# Altium footprint library Flight_Controller.PcbLib: 21 footprints (part 1 of 2)
Each footprint in its own frame and in the unit in brackets; x right, y up, seen from the top. Pads: shape width x height; smd on the part's side, far side on the other; paste and mask are expansions set on the pad; w line width, h text height; cw(c..) or ccw(c..) is an arc to the next point about the centre after c.
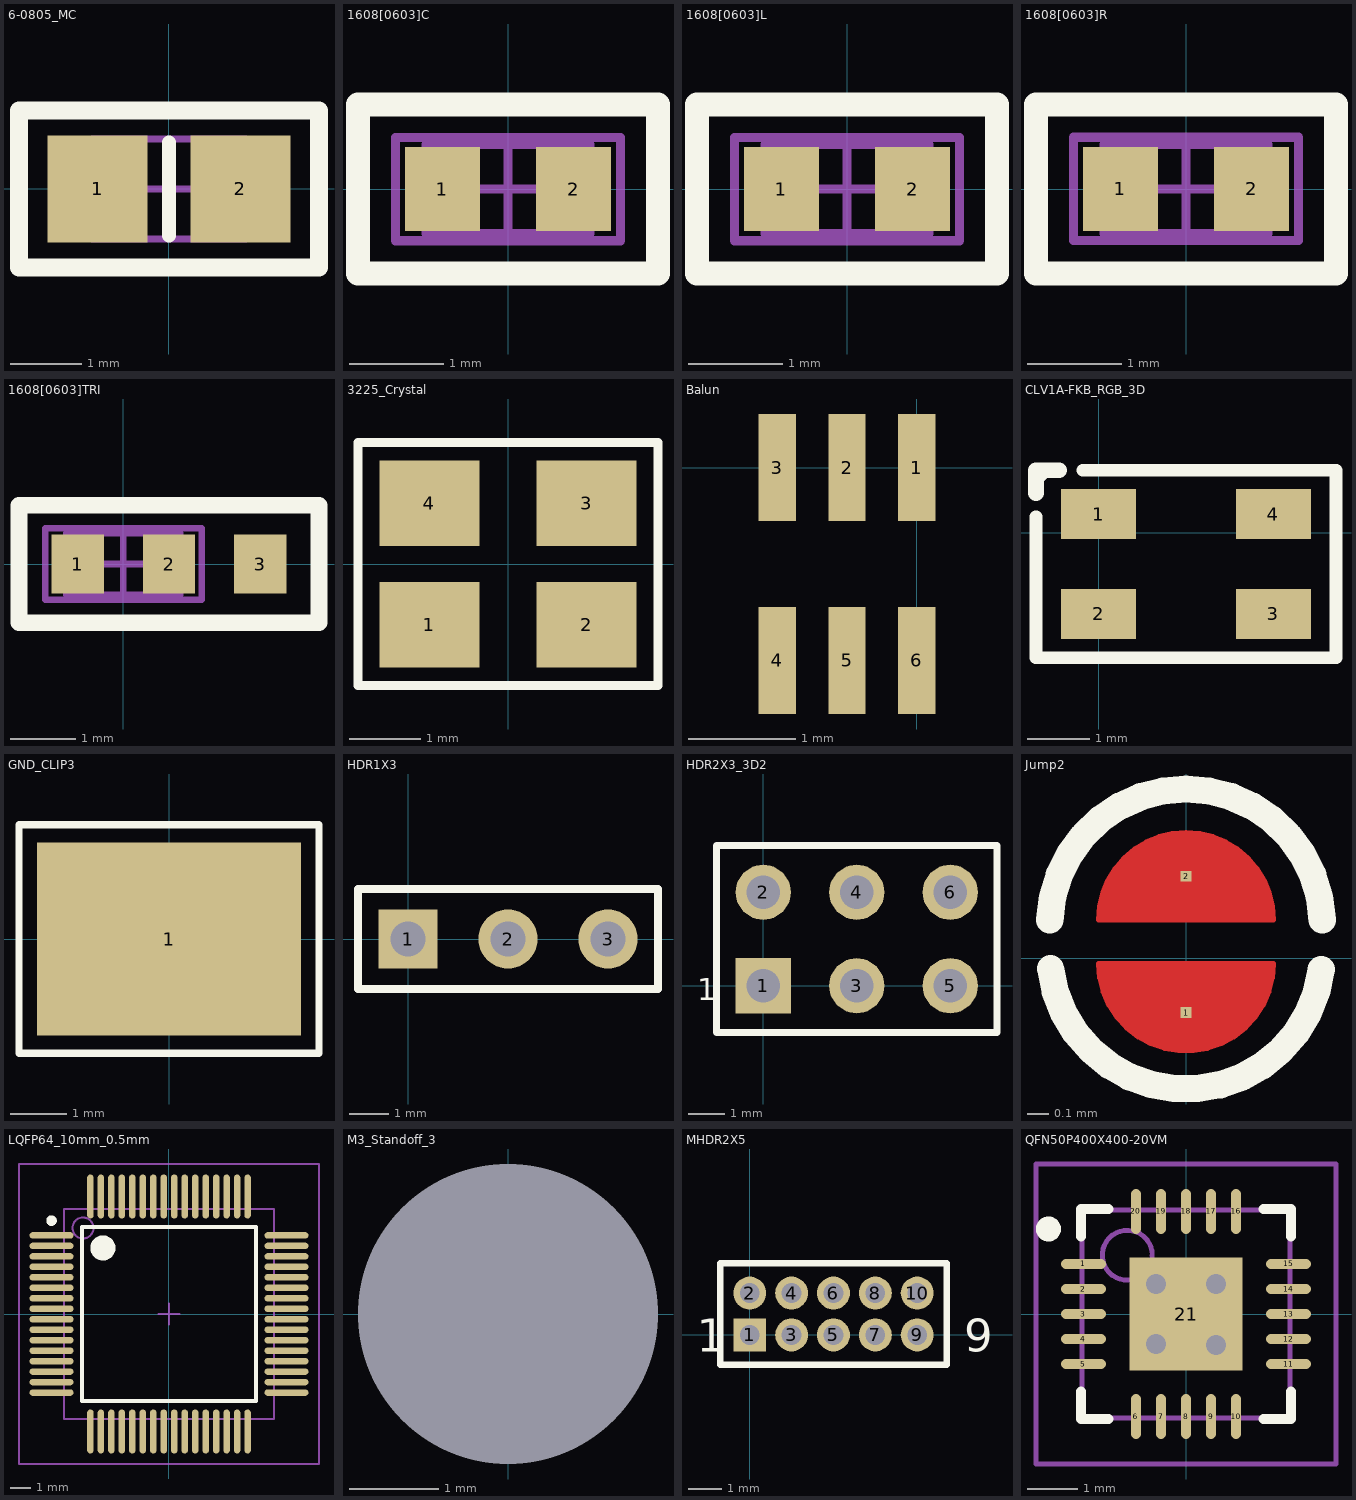
[diagram p0: the footprints below, top view; thin cyan lines are the x and y axes]

## 6-0805_MC [mm] "Chip Resistor, Body 2.0x1.2mm, IPC Low Density"
height 0.7
pads (2):
  rect 1.4x1.5 smd: 1(-1,0) 2(1,0)
Top Overlay:
  lines w0.2: 0,-0.65 0,0.65
  lines w0.254: 2.1,-1.1 -2.1,-1.1 -2.1,1.1 2.1,1.1 2.1,-1.1 ; 2.1,-1.1 2.1,-1.1
Mechanical 13:
  lines w0.1: -1.075,-0.7 -1.075,0.7 1.075,0.7 1.075,-0.7 -1.075,-0.7
Mechanical 15:
  lines w0.1: -0.5,0 0.5,0 ; 0,-0.5 0,0.5
3D body: height 0.59, standoff -0.01, extent -1,-0.625 1,0.625

## 1608[0603]C [mm] "Chip Capacitor, Body 1.6x0.8mm, IPC High Density"
height 1.3
pads (2):
  rect 0.8x0.9 smd: 1(-0.7,0) 2(0.7,0)
Top Overlay:
  lines w0.254: -1.6,-0.9 -1.6,0.9 1.6,0.9 1.6,-0.9 -1.6,-0.9
Mechanical 13:
  lines w0.1: -0.875,-0.475 -0.875,0.475 0.875,0.475 0.875,-0.475 -0.875,-0.475
Mechanical 15:
  lines w0.1: -0.475,0 0.475,0 ; 0,-0.475 0,0.475 ; -1.2,-0.55 -1.2,0.55 1.2,0.55 1.2,-0.55 -1.2,-0.55
3D body: height 0.78, standoff -0.02, extent -0.8,-0.4 0.8,0.4

## 1608[0603]L [mm] "Chip Capacitor, Body 1.6x0.8mm, IPC High Density"
height 1.3
pads (2):
  rect 0.8x0.9 smd: 1(-0.7,0) 2(0.7,0)
Top Overlay:
  lines w0.254: -1.6,-0.9 1.6,-0.9 1.6,0.9 -1.6,0.9 -1.6,-0.9
Mechanical 13:
  lines w0.1: -0.875,-0.475 0.875,-0.475 0.875,0.475 -0.875,0.475 -0.875,-0.475
Mechanical 15:
  lines w0.1: -0.475,0 0.475,0 ; 0,-0.475 0,0.475 ; -1.2,-0.55 1.2,-0.55 1.2,0.55 -1.2,0.55 -1.2,-0.55
3D body: height 0.8, standoff 0, extent -0.8,-0.4 0.8,0.4

## 1608[0603]R [mm] "Chip Capacitor, Body 1.6x0.8mm, IPC High Density"
height 1.3
pads (2):
  rect 0.8x0.9 smd: 1(-0.7,0) 2(0.7,0)
Top Overlay:
  lines w0.254: -1.6,-0.9 -1.6,0.9 1.6,0.9 1.6,-0.9 -1.6,-0.9
Mechanical 13:
  lines w0.1: -0.875,-0.475 -0.875,0.475 0.875,0.475 0.875,-0.475 -0.875,-0.475
Mechanical 15:
  lines w0.1: -0.475,0 0.475,0 ; 0,-0.475 0,0.475 ; -1.2,-0.55 -1.2,0.55 1.2,0.55 1.2,-0.55 -1.2,-0.55
3D body: height 0.44, standoff -0.02, extent -0.8,-0.4 0.8,0.4

## 1608[0603]TRI [mm] "Chip Capacitor, Body 1.6x0.8mm, IPC High Density"
height 1.3
pads (3):
  rect 0.8x0.9 smd: 1(-0.7,0) 2(0.7,0) 3(2.1,0)
Top Overlay:
  lines w0.254: -1.6,-0.9 3,-0.9 3,0.9 -1.6,0.9 -1.6,-0.9
Mechanical 13:
  lines w0.1: -0.875,-0.475 0.875,-0.475 0.875,0.475 -0.875,0.475 -0.875,-0.475
Mechanical 15:
  lines w0.1: -0.475,0 0.475,0 ; 0,-0.475 0,0.475 ; -1.2,-0.55 1.2,-0.55 1.2,0.55 -1.2,0.55 -1.2,-0.55
3D body: height 0.8, standoff 0, extent 0.6,-0.4 2.2,0.4
3D body: height 0.8, standoff 0, extent -0.8,-0.4 0.8,0.4

## 3225_Crystal [mm] "12 MHz Micro Crystal"
pads (4):
  rect 1.4x1.2 smd: 1(-1.1,-0.85) 2(1.1,-0.85) 3(1.1,0.85) 4(-1.1,0.85)
Top Overlay:
  lines w0.127: -2.1,-1.7 -2.1,1.7 2.1,1.7 2.1,-1.7 -2.1,-1.7
3D body: height 0.81, standoff 0, extent -1.6,-1.25 1.6,1.25

## Balun [mm]
pads (6):
  rect 0.35x1 smd mask+0.152: 1(0,0) 2(-0.65,0) 3(-1.3,0) 4(-1.3,-1.8) 5(-0.65,-1.8) 6(0,-1.8)

## CLV1A-FKB_RGB_3D [mm]
pads (4):
  rect 1.2x0.8 smd: 1(0,0.3) 2(0,-1.3) 3(2.8,-1.3) 4(2.8,0.3)
Top Overlay:
  lines w0.152: -1,0.8 -0.8,1
  lines w0.203: -1,0.254 -1,-2 3.8,-2 3.8,1 -0.254,1
  lines w0.254: -1,0.635 -1,1 -0.635,1
3D body: height 1.9, standoff 0, extent -0.353,-1.905 3.147,0.895

## GND_CLIP3 [mil] "Ground clip for a probe"
pads (1):
  rect 185x135 smd: 1(0,0)
Top Overlay:
  lines w5: -105,-80 -105,80 105,80 105,-80 -105,-80
3D body: height 90.55, standoff 0, extent -74.8,-55 74.8,55.24

## HDR1X3 [mm] "Connector; Header; 3 Position"
pads (3):
  rect 1.5x1.5 hole 0.9: 1(0,0)
  round 1.5 hole 0.9: 2(2.54,0) 3(5.08,0)
Top Overlay:
  lines w0.2: -1.27,-1.27 -1.27,1.27 6.35,1.27 6.35,-1.27 -1.27,-1.27

## HDR2X3_3D2 [mm] "Connector; Header; 3x2 Position"
pads (6):
  rect 1.5x1.5 hole 0.9: 1(0,0)
  round 1.5 hole 0.9: 2(0,2.54) 3(2.54,0) 4(2.54,2.54) 5(5.08,0) 6(5.08,2.54)
Top Overlay:
  lines w0.2: 1.482,-1.27 6.35,-1.27 ; 6.35,-1.27 -1.27,-1.27 -1.27,3.81 6.35,3.81 6.35,-1.27
  text "1" at -1.8,-0.6 h1.02
3D body: height 5.8, standoff -2.95, extent -1.21,-9.555 6.41,2.9

## Jump2 [mil]
pads (2):
  rect 2x2 smd mask+0: 1(0,-10) 2(0,15)
Top Layer:
  region: -16,7 16,7 16,8.58 15.07,13.24 11.54,18.54 6.24,22.07 0,23.31 -6.24,22.07 -11.54,18.54 -15.07,13.24 -16,8.58
  region: -16,-1 16,-1 16,-2.58 15.07,-7.24 11.54,-12.54 6.24,-16.07 0,-17.31 -6.24,-16.07 -11.54,-12.54 -15.07,-7.24 -16,-2.58
  lines w1: -16,-1 ccw(c0,-1) 16,-1 -16,-1 ; -16,7 cw(c0,7) 0,23 cw(c0,7) 16,7 -16,7
Top Overlay:
  lines w5: -24.98,7 cw(c0,6) 24.98,7 ; -24.82,-1.98 ccw(c0,1) 24.81,-2.1

## LQFP64_10mm_0.5mm [mm] "Thin QFP, 64-Leads, Body 10x10mm, Pitch 0.5mm, IPC Low Density"
height 1.6
pads (64):
  oval 2.1x0.3 smd: 1(-5.6,3.75) 2(-5.6,3.25) 3(-5.6,2.75) 4(-5.6,2.25) 5(-5.6,1.75) 6(-5.6,1.25) 7(-5.6,0.75) 8(-5.6,0.25) 9(-5.6,-0.25) 10(-5.6,-0.75) 11(-5.6,-1.25) 12(-5.6,-1.75) 13(-5.6,-2.25) 14(-5.6,-2.75) 15(-5.6,-3.25) 16(-5.6,-3.75) 33(5.6,-3.75) 34(5.6,-3.25) 35(5.6,-2.75) 36(5.6,-2.25) 37(5.6,-1.75) 38(5.6,-1.25) 39(5.6,-0.75) 40(5.6,-0.25) 41(5.6,0.25) 42(5.6,0.75) 43(5.6,1.25) 44(5.6,1.75) 45(5.6,2.25) 46(5.6,2.75) 47(5.6,3.25) 48(5.6,3.75)
  oval 0.3x2.1 smd: 17(-3.75,-5.6) 18(-3.25,-5.6) 19(-2.75,-5.6) 20(-2.25,-5.6) 21(-1.75,-5.6) 22(-1.25,-5.6) 23(-0.75,-5.6) 24(-0.25,-5.6) 25(0.25,-5.6) 26(0.75,-5.6) 27(1.25,-5.6) 28(1.75,-5.6) 29(2.25,-5.6) 30(2.75,-5.6) 31(3.25,-5.6) 32(3.75,-5.6) 49(3.75,5.6) 50(3.25,5.6) 51(2.75,5.6) 52(2.25,5.6) 53(1.75,5.6) 54(1.25,5.6) 55(0.75,5.6) 56(0.25,5.6) 57(-0.25,5.6) 58(-0.75,5.6) 59(-1.25,5.6) 60(-1.75,5.6) 61(-2.25,5.6) 62(-2.75,5.6) 63(-3.25,5.6) 64(-3.75,5.6)
Top Overlay:
  circle w0.25: c-5.6,4.45 r0.125
  circle w0.6: c-3.15,3.15 r0.3
  lines w0.2: -4.15,-4.15 -4.15,4.15 4.15,4.15 4.15,-4.15 -4.15,-4.15
Mechanical 13:
  circle w0.1: c-4.1,4.1 r0.5
  lines w0.1: -5,-5 -5,5 5,5 5,-5 -5,-5
Mechanical 15:
  lines w0.1: -0.5,0 0.5,0 ; 0,-0.5 0,0.5 ; -7.15,-7.15 -7.15,7.15 7.15,7.15 7.15,-7.15 -7.15,-7.15
3D body: height 1.6, standoff 0, extent -6,-6 6,6

## M3_Standoff_3 [mil]
pads (1):
  round 0 hole 132 unplated paste+66 mask+66: 1(0,0)

## MHDR2X5 [mm] "Connector; Header; 5x2 Position"
pads (10):
  rect 1x1 hole 0.6: 1(0,0)
  round 1 hole 0.6: 2(0,1.27) 3(1.27,0) 4(1.27,1.27) 5(2.54,0) 6(2.54,1.27) 7(3.81,0) 8(3.81,1.27) 9(5.08,0) 10(5.08,1.27)
Top Overlay:
  lines w0.2: -0.9,-0.9 5.98,-0.9 5.98,2.17 -0.9,2.17 -0.9,-0.9
  text "1" at -1.6,-0.508 h1
  text "9" at 6.5,-0.508 h1

## QFN50P400X400-20VM [mm] "QFN, 20-Leads, Body 4x4mm, Pitch 0.5mm, IPC Low Density"
height 1
pads (21):
  oval 0.9x0.2 smd mask+0.051: 1(-2.05,1) 2(-2.05,0.5) 3(-2.05,0) 4(-2.05,-0.5) 5(-2.05,-1) 11(2.05,-1) 12(2.05,-0.5) 13(2.05,0) 14(2.05,0.5) 15(2.05,1)
  oval 0.2x0.9 smd mask+0.051: 6(-1,-2.05) 7(-0.5,-2.05) 8(0,-2.05) 9(0.5,-2.05) 10(1,-2.05) 16(1,2.05) 17(0.5,2.05) 18(0,2.05) 19(-0.5,2.05) 20(-1,2.05)
  rect 2.25x2.25 smd mask+0.051: 21(0,0)
via 0.6,0.6 diameter 0.864 hole 0.406
via -0.6,0.6 diameter 0.864 hole 0.406
via -0.6,-0.6 diameter 0.864 hole 0.406
via 0.6,-0.619 diameter 0.864 hole 0.406
Top Overlay:
  circle w0.25: c-2.75,1.7 r0.125
  lines w0.2: -2.1,-1.55 -2.1,-2.1 -1.55,-2.1 ; -2.1,1.55 -2.1,2.1 -1.55,2.1 ; 1.55,-2.1 2.1,-2.1 2.1,-1.55 ; 1.55,2.1 2.1,2.1 2.1,1.55
Mechanical 13:
  circle w0.1: c-1.175,1.175 r0.5
  lines w0.1: -2.075,-2.075 -2.075,2.075 2.075,2.075 2.075,-2.075 -2.075,-2.075
Mechanical 15:
  lines w0.1: -0.5,0 0.5,0 ; 0,-0.5 0,0.5 ; -3,-3 -3,3 3,3 3,-3 -3,-3
3D body: height 1, standoff 0, extent -2.075,-2.075 2.075,2.075